# Altium footprint library Capacitor Polar Axial.PcbLib: 56 footprints (part 2 of 4)
Each footprint in its own frame and in the unit in brackets; x right, y up, seen from the top. Pads: shape width x height; smd on the part's side, far side on the other; paste and mask are expansions set on the pad; w line width, h text height; cw(c..) or ccw(c..) is an arc to the next point about the centre after c.
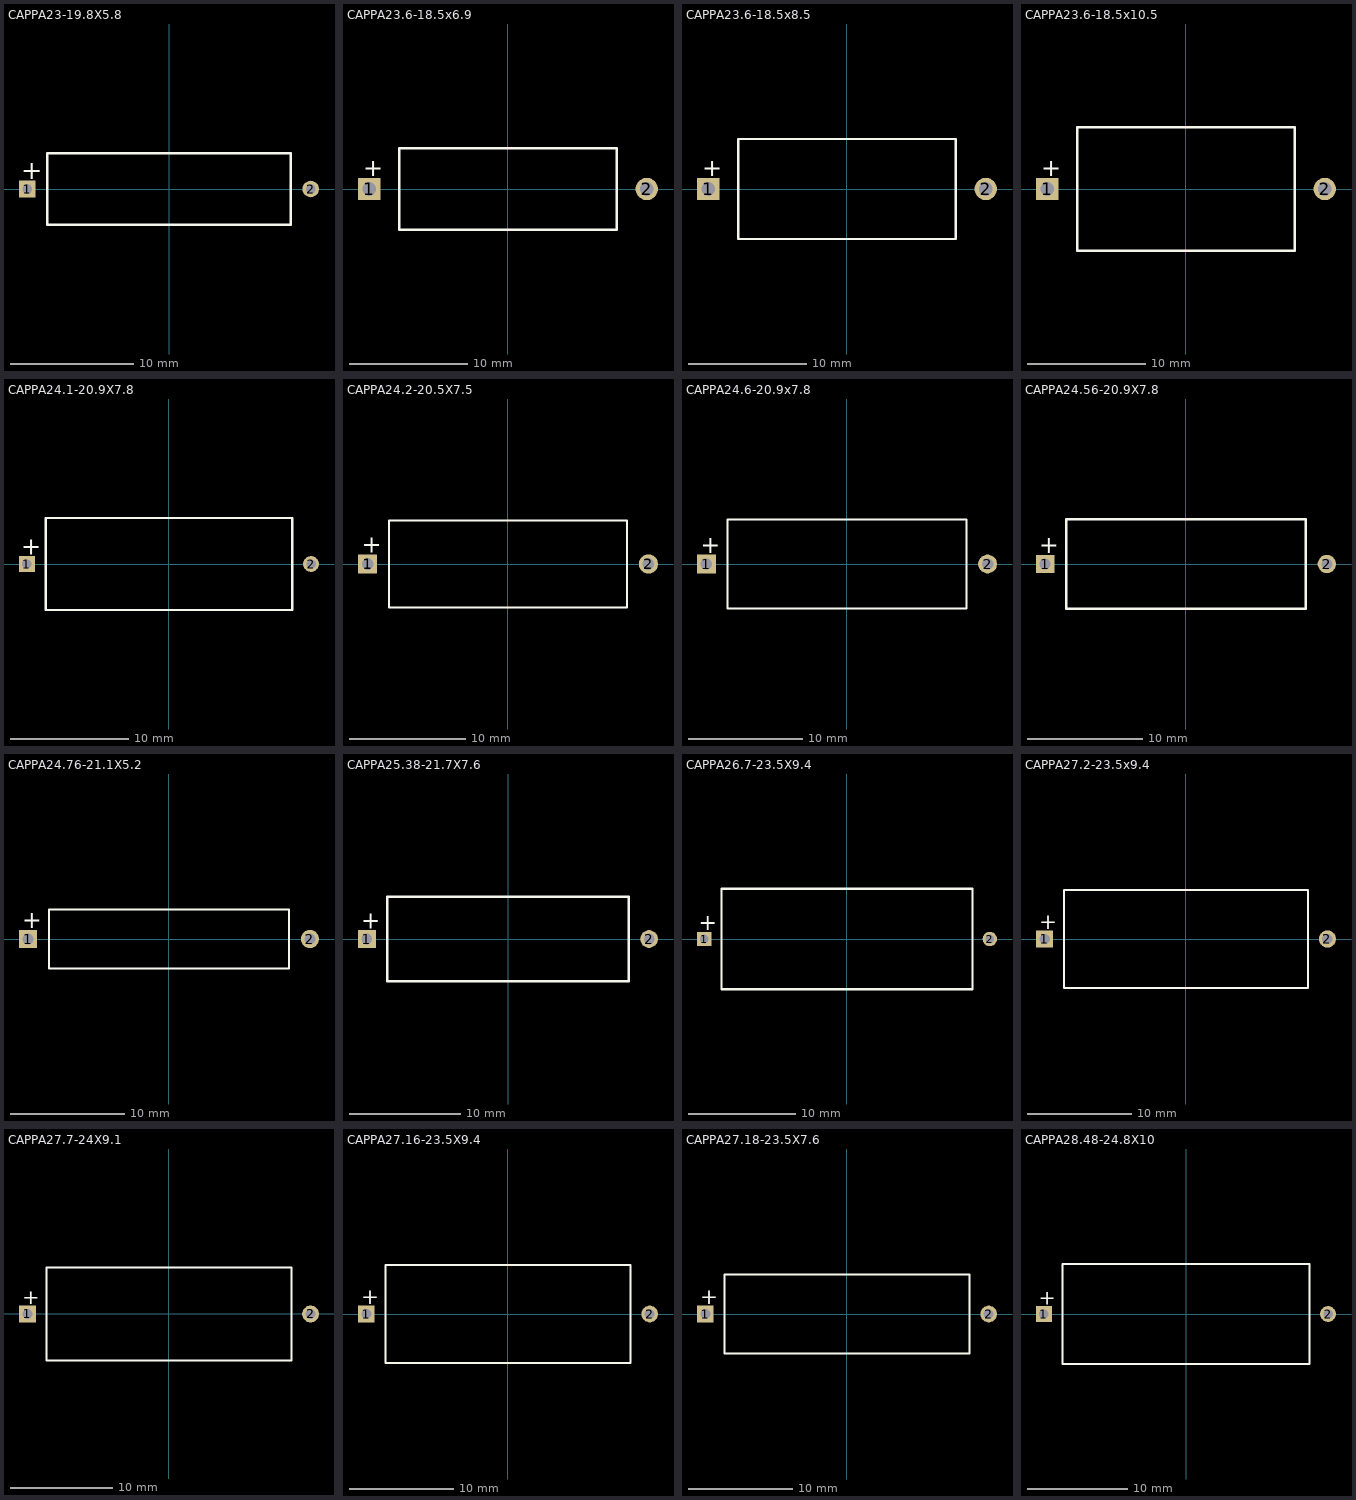
[diagram p1: the footprints below, top view; thin cyan lines are the x and y axes]

## CAPPA23-19.8X5.8 [mm] "Capacitor, Axial, Polarised; Body 19.8 x 5.7 mm (LxDia. max), Lead Dia. 0.51 mm (typ)"
height 5.8
pads (2):
  rect 1.35x1.35 hole 0.8: 1(-11.5,0)
  round 1.35 hole 0.8: 2(11.5,0)
Top Overlay:
  lines w0.2: -9.9,-2.9 -9.9,2.9 9.9,2.9 9.9,-2.9 -9.9,-2.9
  text "+" at -12,0.8 h1.5

## CAPPA23.6-18.5x6.9 [mm] "Capacitor, Axial, Polarised; Body 18.5 x 6.9 mm (LxDia. max), Lead Dia. 0.8 mm (typ)"
height 6.9
pads (2):
  rect 1.9x1.9 hole 1.15: 1(-11.8,0)
  round 1.9 hole 1.15: 2(11.8,0)
Top Overlay:
  lines w0.2: -9.25,-3.45 -9.25,3.45 9.25,3.45 9.25,-3.45 -9.25,-3.45
  text "+" at -12.3,1.075 h1.5

## CAPPA23.6-18.5x8.5 [mm] "Capacitor, Axial, Polarised; Body 18.5 x 8.5 mm (LxDia. max), Lead Dia. 0.8 mm (typ)"
height 8.5
pads (2):
  rect 1.9x1.9 hole 1.15: 1(-11.8,0)
  round 1.9 hole 1.15: 2(11.8,0)
Top Overlay:
  lines w0.2: -9.25,-4.25 -9.25,4.25 9.25,4.25 9.25,-4.25 -9.25,-4.25
  text "+" at -12.3,1.075 h1.5

## CAPPA23.6-18.5x10.5 [mm] "Capacitor, Axial, Polarised; Body 18.5 x 10.5 mm (LxDia. max), Lead Dia. 0.8 mm (typ)"
height 10.5
pads (2):
  rect 1.9x1.9 hole 1.15: 1(-11.8,0)
  round 1.9 hole 1.15: 2(11.8,0)
Top Overlay:
  lines w0.2: -9.25,-5.25 -9.25,5.25 9.25,5.25 9.25,-5.25 -9.25,-5.25
  text "+" at -12.3,1.075 h1.5

## CAPPA24.1-20.9X7.8 [mm] "Capacitor, Axial, Polarised; Body 18.2 x 7.8 mm (LxDia. max), Lead Dia. 0.51 mm (typ)"
height 7.8
pads (2):
  rect 1.35x1.35 hole 0.8: 1(-12.05,0)
  round 1.35 hole 0.8: 2(12.05,0)
Top Overlay:
  lines w0.2: -10.45,-3.9 10.45,-3.9 10.45,3.9 -10.45,3.9 -10.45,-3.9
  text "+" at -12.55,0.8 h1.5

## CAPPA24.2-20.5X7.5 [mm] "Capacitor, Axial, Polarised; Body 18.2 x 7.5 mm (LxDia. max), Lead Dia. 0.63 mm (typ)"
height 7.5
pads (2):
  rect 1.65x1.65 hole 1: 1(-12.1,0)
  round 1.65 hole 1: 2(12.1,0)
Top Overlay:
  lines w0.2: -10.25,-3.75 10.25,-3.75 10.25,3.75 -10.25,3.75 -10.25,-3.75
  text "+" at -12.6,0.95 h1.5

## CAPPA24.6-20.9x7.8 [mm] "Capacitor, Axial, Polarised; Body 20.9 x 7.8 mm (LxDia. max), Lead Dia. 0.65 mm (typ)"
height 7.8
pads (2):
  rect 1.65x1.65 hole 1: 1(-12.3,0)
  round 1.65 hole 1: 2(12.3,0)
Top Overlay:
  lines w0.2: -10.45,-3.9 10.45,-3.9 10.45,3.9 -10.45,3.9 -10.45,-3.9
  text "+" at -12.8,0.95 h1.5

## CAPPA24.56-20.9X7.8 [mm] "Capacitor, Axial, Polarised; Body 18.2 x 7.7 mm (LxDia. max), Lead Dia. 0.64 mm (typ)"
height 7.8
pads (2):
  rect 1.6x1.6 hole 0.95: 1(-12.28,0)
  round 1.6 hole 0.95: 2(12.28,0)
Top Overlay:
  lines w0.2: -10.45,-3.9 10.45,-3.9 10.45,3.9 -10.45,3.9 -10.45,-3.9
  text "+" at -12.78,0.925 h1.5

## CAPPA24.76-21.1X5.2 [mm] "Capacitor, Axial, Polarised; Body 12.3 x 5.2 mm (LxDia. max), Lead Dia. 0.64 mm (typ)"
height 5.2
pads (2):
  rect 1.6x1.6 hole 0.95: 1(-12.38,0)
  round 1.6 hole 0.95: 2(12.38,0)
Top Overlay:
  lines w0.2: -10.55,-2.6 -10.55,2.6 10.55,2.6 10.55,-2.6 -10.55,-2.6
  text "+" at -12.88,0.925 h1.5

## CAPPA25.38-21.7X7.6 [mm] "Capacitor, Axial, Polarised; Body 17.1 x 7.5 mm (LxDia. max), Lead Dia. 0.64 mm (typ)"
height 7.6
pads (2):
  rect 1.6x1.6 hole 0.95: 1(-12.69,0)
  round 1.6 hole 0.95: 2(12.69,0)
Top Overlay:
  lines w0.2: -10.85,-3.8 -10.85,3.8 10.85,3.8 10.85,-3.8 -10.85,-3.8
  text "+" at -13.19,0.925 h1.5

## CAPPA26.7-23.5X9.4 [mm] "Capacitor, Axial, Polarised; Body 20.8 x 9.3 mm (LxDia. max), Lead Dia. 0.51 mm (typ)"
height 9.4
pads (2):
  rect 1.35x1.35 hole 0.8: 1(-13.35,0)
  round 1.35 hole 0.8: 2(13.35,0)
Top Overlay:
  lines w0.2: -11.75,-4.7 11.75,-4.7 11.75,4.7 -11.75,4.7 -11.75,-4.7
  text "+" at -13.85,0.8 h1.5

## CAPPA27.2-23.5x9.4 [mm] "Capacitor, Axial, Polarised; Body 23.4 x 9.3 mm (LxDia. max), Lead Dia. 0.65 mm (typ)"
height 9.4
pads (2):
  rect 1.65x1.65 hole 1: 1(-13.6,0)
  round 1.65 hole 1: 2(13.6,0)
Top Overlay:
  lines w0.2: -11.75,-4.7 -11.75,4.7 11.75,4.7 11.75,-4.7 -11.75,-4.7
  text "+" at -14.1,0.95 h1.5

## CAPPA27.7-24X9.1 [mm] "Capacitor, Axial, Polarised; Body 20.8 x 9.1 mm (LxDia. max), Lead Dia. 0.63 mm (typ)"
height 9.1
pads (2):
  rect 1.65x1.65 hole 1: 1(-13.85,0)
  round 1.65 hole 1: 2(13.85,0)
Top Overlay:
  lines w0.2: -12,-4.55 -12,4.55 12,4.55 12,-4.55 -12,-4.55
  text "+" at -14.35,0.95 h1.5

## CAPPA27.16-23.5X9.4 [mm] "Capacitor, Axial, Polarised; Body 20.8 x 9.3 mm (LxDia. max), Lead Dia. 0.64 mm (typ)"
height 9.4
pads (2):
  rect 1.6x1.6 hole 0.95: 1(-13.58,0)
  round 1.6 hole 0.95: 2(13.58,0)
Top Overlay:
  lines w0.2: -11.75,-4.7 -11.75,4.7 11.75,4.7 11.75,-4.7 -11.75,-4.7
  text "+" at -14.08,0.925 h1.5

## CAPPA27.18-23.5X7.6 [mm] "Capacitor, Axial, Polarised; Body 17 x 7.5 mm (LxDia. max), Lead Dia. 0.64 mm (typ)"
height 7.6
pads (2):
  rect 1.6x1.6 hole 0.95: 1(-13.59,0)
  round 1.6 hole 0.95: 2(13.59,0)
Top Overlay:
  lines w0.2: -11.75,-3.8 11.75,-3.8 11.75,3.8 -11.75,3.8 -11.75,-3.8
  text "+" at -14.09,0.925 h1.5

## CAPPA28.48-24.8X10 [mm] "Capacitor, Axial, Polarised; Body 20.2 x 9.9 mm (LxDia. max), Lead Dia. 0.64 mm (typ)"
height 10
pads (2):
  rect 1.6x1.6 hole 0.95: 1(-14.24,0)
  round 1.6 hole 0.95: 2(14.24,0)
Top Overlay:
  lines w0.2: -12.4,-5 12.4,-5 12.4,5 -12.4,5 -12.4,-5
  text "+" at -14.74,0.925 h1.5